# Altium footprint library CeleronLib_Connect.PcbLib: 219 footprints (part 1 of 14)
Each footprint in its own frame and in the unit in brackets; x right, y up, seen from the top. Pads: shape width x height; smd on the part's side, far side on the other; paste and mask are expansions set on the pad; w line width, h text height; cw(c..) or ccw(c..) is an arc to the next point about the centre after c.
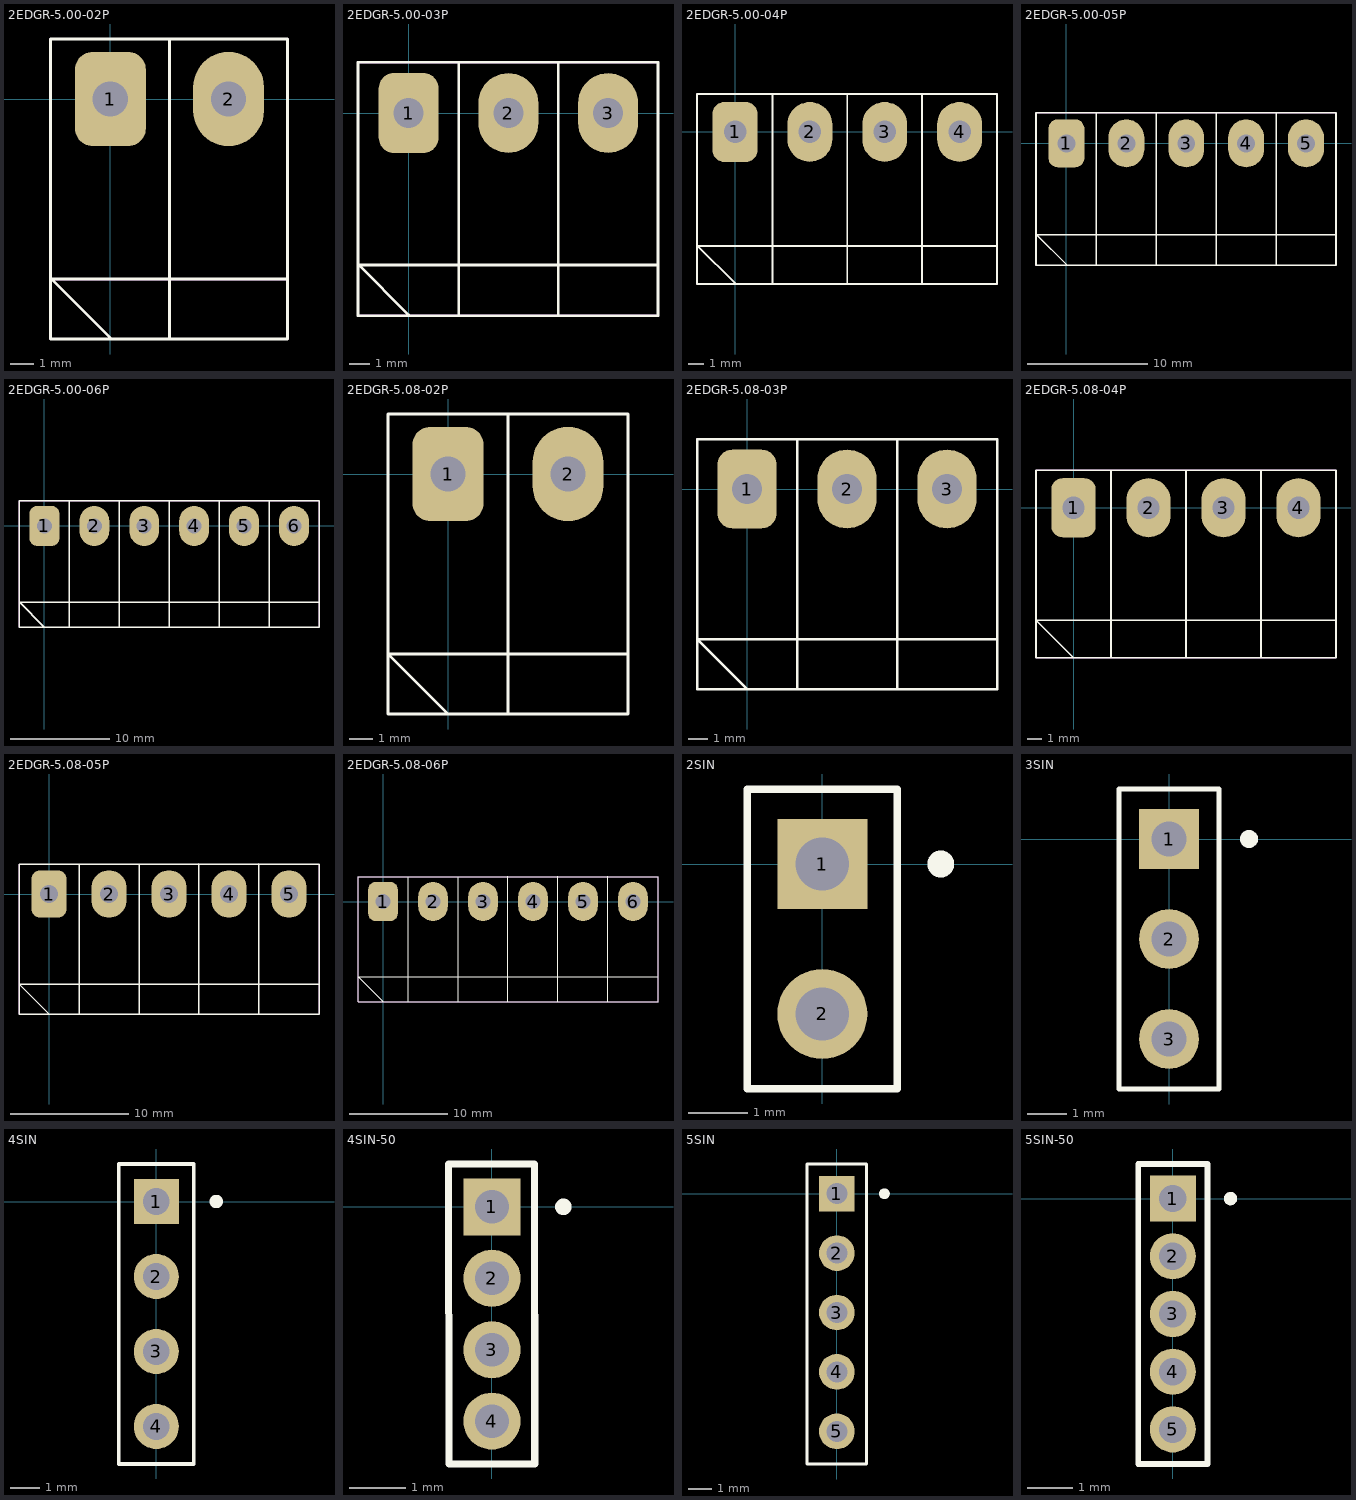
[diagram p0: the footprints below, top view; thin cyan lines are the x and y axes]

## 2EDGR-5.00-02P [mm] "Клеммник 2EDGR-5.00-02P (на плату, угловой, 2 pin, шаг 5.08мм)"
height 8
pads (2):
  rrect50% 3x4 hole 1.5: 1(0,0)
  oval 3x4 hole 1.5: 2(5,0)
Top Overlay:
  lines w0.127: -2.54,-7.62 7.5,-7.62 ; -2.54,-7.58 0,-10.12 ; 2.5,-10.16 2.5,2.54 ; -2.54,-10.16 -2.54,2.54 7.5,2.54 7.5,-10.16 -2.54,-10.16
Top 3D:
  circle w0.1: c0,0 r0.6
  circle w0.1: c5,0 r0.6
  lines w0.1: -2.54,-7.64 7.5,-7.64 ; -2.54,-10.16 7.5,-10.16 7.5,2.54 -2.54,2.54 -2.54,-10.16
3D body: height 0, standoff -4, extent -0.611,-0.611 0.611,0.611
3D body: height 0, standoff -4, extent 4.389,-0.611 5.611,0.611
3D body: height 7.6, standoff 0, extent -2.539,-10.159 7.5,2.539
3D body: height 8, standoff 7.6, extent -2.539,-10.159 7.499,-7.62

## 2EDGR-5.00-03P [mm] "Клеммник 2EDGR-5.00-03P (на плату, угловой, 3 pin, шаг 5.08мм)"
height 8
pads (3):
  rrect50% 3x4 hole 1.5: 1(0,0)
  oval 3x4 hole 1.5: 2(5,0) 3(10,0)
Top Overlay:
  lines w0.127: -2.54,-7.62 12.5,-7.62 ; -2.54,-7.58 0,-10.12 ; 2.5,-10.16 2.5,2.54 ; 7.5,-10.16 7.5,2.54 ; -2.54,-10.16 12.5,-10.16 12.5,2.54 -2.54,2.54 -2.54,-10.16
Top 3D:
  circle w0.1: c5,0 r0.6
  circle w0.1: c0,0 r0.6
  circle w0.1: c10,0 r0.6
  lines w0.1: -2.54,-10.16 -2.54,2.54 12.5,2.54 12.5,-10.16 -2.54,-10.16
3D body: height 7.6, standoff 0, extent -2.539,-10.159 12.5,2.539
3D body: height 0, standoff -4, extent 4.389,-0.611 5.611,0.611
3D body: height 0, standoff -4, extent -0.611,-0.611 0.611,0.611
3D body: height 0, standoff -4, extent 9.389,-0.611 10.611,0.611
3D body: height 8, standoff 7.6, extent -2.539,-10.159 12.5,-7.62

## 2EDGR-5.00-04P [mm] "Клеммник 2EDGR-5.00-04P (на плату, угловой, 3 pin, шаг 5.08мм)"
height 8
pads (4):
  rrect50% 3x4 hole 1.5: 1(0,0)
  oval 3x4 hole 1.5: 2(5,0) 3(10,0) 4(15,0)
Top Overlay:
  lines w0.127: 0,-10.12 -2.5,-7.62 17.5,-7.62 ; 2.5,-10.16 2.5,2.54 ; 7.5,-10.16 7.5,2.54 ; 12.5,-10.16 12.5,2.54 ; -2.54,-10.16 17.5,-10.16 17.5,2.54 -2.54,2.54 -2.54,-10.16
Top 3D:
  circle w0.1: c15,0 r0.6
  circle w0.1: c5,0 r0.6
  circle w0.1: c0,0 r0.6
  circle w0.1: c10,0 r0.6
  lines w0.1: -2.54,-10.16 -2.54,2.54 17.5,2.54 17.5,-10.16 -2.54,-10.16
3D body: height 0, standoff -4, extent 14.389,-0.611 15.611,0.611
3D body: height 7.6, standoff 0, extent -2.539,-10.159 17.5,2.539
3D body: height 0, standoff -4, extent 4.389,-0.611 5.611,0.611
3D body: height 0, standoff -4, extent -0.611,-0.611 0.611,0.611
3D body: height 0, standoff -4, extent 9.389,-0.611 10.611,0.611
3D body: height 8, standoff 7.6, extent -2.539,-10.159 17.5,-7.62

## 2EDGR-5.00-05P [mm] "Клеммник 2EDGR-5.00-05P (на плату, угловой, 3 pin, шаг 5.08мм)"
height 8
pads (5):
  rrect50% 3x4 hole 1.5: 1(0,0)
  oval 3x4 hole 1.5: 2(5,0) 3(10,0) 4(15,0) 5(20,0)
Top Overlay:
  lines w0.127: 0,-10.12 -2.5,-7.62 22.5,-7.62 ; 2.5,-10.16 2.5,2.54 ; 7.5,-10.16 7.5,2.54 ; 12.5,-10.16 12.5,2.54 ; 17.5,-10.16 17.5,2.54 ; -2.54,-10.16 -2.54,2.54 22.5,2.54 22.5,-10.16 -2.54,-10.16
Top 3D:
  circle w0.1: c20,0 r0.6
  circle w0.1: c10,0 r0.6
  circle w0.1: c0,0 r0.6
  circle w0.1: c5,0 r0.6
  circle w0.1: c15,0 r0.6
  lines w0.1: -2.54,-10.16 22.5,-10.16 22.5,2.54 -2.54,2.54 -2.54,-10.16
3D body: height 0, standoff -4, extent 19.389,-0.611 20.611,0.611
3D body: height 0, standoff -4, extent 9.389,-0.611 10.611,0.611
3D body: height 0, standoff -4, extent -0.611,-0.611 0.611,0.611
3D body: height 0, standoff -4, extent 4.389,-0.611 5.611,0.611
3D body: height 7.6, standoff 0, extent -2.539,-10.159 22.5,2.539
3D body: height 0, standoff -4, extent 14.389,-0.611 15.611,0.611
3D body: height 8, standoff 7.6, extent -2.539,-10.159 22.5,-7.62

## 2EDGR-5.00-06P [mm] "Клеммник 2EDGR-5.00-06P (на плату, угловой, 3 pin, шаг 5.08мм)"
height 8
pads (6):
  rrect50% 3x4 hole 1.5: 1(0,0)
  oval 3x4 hole 1.5: 2(5,0) 3(10,0) 4(15,0) 5(20,0) 6(25,0)
Top Overlay:
  lines w0.127: -2.54,-7.62 27.5,-7.62 ; -2.54,-7.58 0,-10.12 ; 2.5,-10.16 2.5,2.54 ; 7.5,-10.16 7.5,2.54 ; 12.5,-10.16 12.5,2.54 ; 17.5,-10.16 17.5,2.54 ; 22.5,-10.16 22.5,2.54 ; -2.54,-10.16 -2.54,2.54 27.5,2.54 27.5,-10.16 -2.54,-10.16
Top 3D:
  circle w0.1: c25,0 r0.6
  circle w0.1: c20,0 r0.6
  circle w0.1: c10,0 r0.6
  circle w0.1: c0,0 r0.6
  circle w0.1: c5,0 r0.6
  circle w0.1: c15,0 r0.6
  lines w0.1: -2.54,-10.16 27.5,-10.16 27.5,2.54 -2.54,2.54 -2.54,-10.16
3D body: height 8, standoff 7.6, extent -2.539,-10.159 27.5,-7.62
3D body: height 0, standoff -4, extent 24.389,-0.611 25.611,0.611
3D body: height 0, standoff -4, extent 19.389,-0.611 20.611,0.611
3D body: height 0, standoff -4, extent 9.389,-0.611 10.611,0.611
3D body: height 0, standoff -4, extent -0.611,-0.611 0.611,0.611
3D body: height 0, standoff -4, extent 4.389,-0.611 5.611,0.611
3D body: height 7.6, standoff 0, extent -2.539,-10.159 27.5,2.539
3D body: height 0, standoff -4, extent 14.389,-0.611 15.611,0.611

## 2EDGR-5.08-02P [mm] "Клеммник 2EDGR-5.08-02P (на плату, угловой, 2 pin, шаг 5.08мм)"
height 8
pads (2):
  rrect50% 3x4 hole 1.5: 1(0,0)
  oval 3x4 hole 1.5: 2(5.08,0)
Top Overlay:
  lines w0.127: 0,-10.16 -2.54,-7.62 7.62,-7.62 ; 2.54,-10.16 2.54,2.54 ; -2.54,-10.16 7.62,-10.16 7.62,2.54 -2.54,2.54 -2.54,-10.16
Top 3D:
  circle w0.1: c5.08,0 r0.6
  circle w0.1: c0,0 r0.6
  lines w0.1: -2.54,-10.16 -2.54,2.54 7.62,2.54 7.62,-10.16 -2.54,-10.16
3D body: height 8, standoff 7.6, extent -2.539,-10.159 7.62,-7.62
3D body: height 7.6, standoff 0, extent -2.539,-10.159 7.619,2.539
3D body: height 0, standoff -4, extent 4.469,-0.611 5.691,0.611
3D body: height 0, standoff -4, extent -0.611,-0.611 0.611,0.611

## 2EDGR-5.08-03P [mm] "Клеммник 2EDGR-5.08-03P (на плату, угловой, 3 pin, шаг 5.08мм)"
height 8
pads (3):
  rrect50% 3x4 hole 1.5: 1(0,0)
  oval 3x4 hole 1.5: 2(5.08,0) 3(10.16,0)
Top Overlay:
  lines w0.127: 0,-10.16 -2.54,-7.62 12.7,-7.62 ; 2.54,-10.16 2.54,2.54 ; 7.62,-10.16 7.62,2.54 ; -2.54,-10.16 -2.54,2.54 12.7,2.54 12.7,-10.16 -2.54,-10.16
Top 3D:
  circle w0.1: c10.16,0 r0.6
  circle w0.1: c0,0 r0.6
  circle w0.1: c5.08,0 r0.6
  lines w0.1: -2.54,-10.16 12.7,-10.16 12.7,2.54 -2.54,2.54 -2.54,-10.16
3D body: height 0, standoff -4, extent 9.549,-0.611 10.771,0.611
3D body: height 0, standoff -4, extent -0.611,-0.611 0.611,0.611
3D body: height 0, standoff -4, extent 4.469,-0.611 5.691,0.611
3D body: height 7.6, standoff 0, extent -2.539,-10.159 12.7,2.539
3D body: height 8, standoff 7.6, extent -2.539,-10.159 12.7,-7.62

## 2EDGR-5.08-04P [mm] "Клеммник 2EDGR-5.08-04P (на плату, угловой, 3 pin, шаг 5.08мм)"
height 8
pads (4):
  rrect50% 3x4 hole 1.5: 1(0,0)
  oval 3x4 hole 1.5: 2(5.08,0) 3(10.16,0) 4(15.24,0)
Top Overlay:
  lines w0.127: 0,-10.16 -2.54,-7.62 17.78,-7.62 ; 2.54,-10.16 2.54,2.54 ; 7.62,-10.16 7.62,2.54 ; 12.7,-10.16 12.7,2.54 ; -2.54,-10.16 -2.54,2.54 17.78,2.54 17.78,-10.16 -2.54,-10.16
Top 3D:
  circle w0.1: c10.16,0 r0.6
  circle w0.1: c0,0 r0.6
  circle w0.1: c5.08,0 r0.6
  circle w0.1: c15.24,0 r0.6
  lines w0.1: -2.54,-10.16 17.78,-10.16 17.78,2.54 -2.54,2.54 -2.54,-10.16
3D body: height 0, standoff -4, extent 9.549,-0.611 10.771,0.611
3D body: height 0, standoff -4, extent -0.611,-0.611 0.611,0.611
3D body: height 0, standoff -4, extent 4.469,-0.611 5.691,0.611
3D body: height 7.6, standoff 0, extent -2.539,-10.159 17.78,2.539
3D body: height 0, standoff -4, extent 14.629,-0.611 15.851,0.611
3D body: height 8, standoff 7.6, extent -2.539,-10.159 17.78,-7.62

## 2EDGR-5.08-05P [mm] "Клеммник 2EDGR-5.08-05P (на плату, угловой, 3 pin, шаг 5.08мм)"
height 8
pads (5):
  rrect50% 3x4 hole 1.5: 1(0,0)
  oval 3x4 hole 1.5: 2(5.08,0) 3(10.16,0) 4(15.24,0) 5(20.32,0)
Top Overlay:
  lines w0.127: 0,-10.16 -2.54,-7.62 22.86,-7.62 ; 2.54,-10.16 2.54,2.54 ; 7.62,-10.16 7.62,2.54 ; 12.7,-10.16 12.7,2.54 ; 17.78,-10.16 17.78,2.54 ; -2.54,-10.16 22.86,-10.16 22.86,2.54 -2.54,2.54 -2.54,-10.16
Top 3D:
  circle w0.1: c15.24,0 r0.6
  circle w0.1: c5.08,0 r0.6
  circle w0.1: c0,0 r0.6
  circle w0.1: c10.16,0 r0.6
  circle w0.1: c20.32,0 r0.6
  lines w0.1: -2.54,-10.16 -2.54,2.54 22.86,2.54 22.86,-10.16 -2.54,-10.16
3D body: height 0, standoff -4, extent 14.629,-0.611 15.851,0.611
3D body: height 7.6, standoff 0, extent -2.539,-10.159 22.86,2.539
3D body: height 0, standoff -4, extent 4.469,-0.611 5.691,0.611
3D body: height 0, standoff -4, extent -0.611,-0.611 0.611,0.611
3D body: height 0, standoff -4, extent 9.549,-0.611 10.771,0.611
3D body: height 0, standoff -4, extent 19.709,-0.611 20.931,0.611
3D body: height 8, standoff 7.6, extent -2.539,-10.159 22.86,-7.62

## 2EDGR-5.08-06P [mm] "Клеммник 2EDGR-5.08-06P (на плату, угловой, 3 pin, шаг 5.08мм)"
height 8
pads (6):
  rrect50% 3x4 hole 1.5: 1(0,0)
  oval 3x4 hole 1.5: 2(5.08,0) 3(10.16,0) 4(15.24,0) 5(20.32,0) 6(25.4,0)
Top Overlay:
  lines w0.127: 0,-10.16 -2.54,-7.62 27.94,-7.62 ; 2.54,-10.16 2.54,2.54 ; 7.62,-10.16 7.62,2.54 ; 12.7,-10.16 12.7,2.54 ; 17.78,-10.16 17.78,2.54 ; 22.86,-10.16 22.86,2.54 ; -2.54,-10.16 -2.54,2.54 27.94,2.54 27.94,-10.16 -2.54,-10.16
Top 3D:
  circle w0.1: c25.4,0 r0.6
  circle w0.1: c20.32,0 r0.6
  circle w0.1: c10.16,0 r0.6
  circle w0.1: c0,0 r0.6
  circle w0.1: c5.08,0 r0.6
  circle w0.1: c15.24,0 r0.6
  lines w0.1: -2.54,-10.16 27.94,-10.16 27.94,2.54 -2.54,2.54 -2.54,-10.16
3D body: height 0, standoff -4, extent 24.789,-0.611 26.011,0.611
3D body: height 0, standoff -4, extent 19.709,-0.611 20.931,0.611
3D body: height 0, standoff -4, extent 9.549,-0.611 10.771,0.611
3D body: height 0, standoff -4, extent -0.611,-0.611 0.611,0.611
3D body: height 0, standoff -4, extent 4.469,-0.611 5.691,0.611
3D body: height 7.6, standoff 0, extent -2.539,-10.159 27.94,2.539
3D body: height 0, standoff -4, extent 14.629,-0.611 15.851,0.611
3D body: height 8, standoff 7.6, extent -2.539,-10.159 27.94,-7.62

## 2SIN [mil]
pads (2):
  rect 60x60 hole 35.43: 1(0,0)
  round 60 hole 35.43: 2(0,-100)
Top Overlay:
  circle w10: c79,0 r4
  lines w5: -50,-150 50,-150 50,50 -50,50 -50,-150

## 3SIN [mil]
pads (3):
  rect 60x60 hole 35.43: 1(0,0)
  round 60 hole 35.43: 2(0,-100) 3(0,-200)
Top Overlay:
  circle w10: c80,0 r4
  lines w5: -50,-250 -50,50 50,50 50,-250 -50,-250

## 4SIN [mil]
pads (4):
  rect 60x60 hole 35.43: 1(0,0)
  round 60 hole 35.43: 2(0,-100) 3(0,-200) 4(0,-300)
Top Overlay:
  circle w10: c80,0 r4
  lines w5: -50,-350 -50,50 50,50 50,-350 -50,-350

## 4SIN-50 [mil]
pads (4):
  rect 40x40 hole 23.6: 1(0,0)
  round 40 hole 23.6: 2(0,-50) 3(0,-100) 4(0,-150)
Top Overlay:
  circle w6: c50,0 r2.8
  lines w5: -30.33,30 -30.01,-180 29.99,-180 29.67,30 -30.33,30

## 5SIN [mil]
pads (5):
  rect 60x60 hole 35.43: 1(0,0)
  round 60 hole 35.43: 2(0,-100) 3(0,-200) 4(0,-300) 5(0,-400)
Top Overlay:
  circle w10: c80,0 r4
  lines w5: -50,-455 -50,50 50,50 50,-455 -50,-455

## 5SIN-50 [mil]
pads (5):
  rect 40x40 hole 23.6: 1(0,0)
  round 40 hole 23.6: 2(0,-50) 3(0,-100) 4(0,-150) 5(0,-200)
Top Overlay:
  circle w6: c50,0 r2.8
  lines w5: -30,-230 30,-230 30,30 -30,30 -30,-230